# Altium schematic symbol library PVLoad_Schlib.SchLib: 13 symbols
Pins are listed as number, name and electrical type; pins without a type are passive.

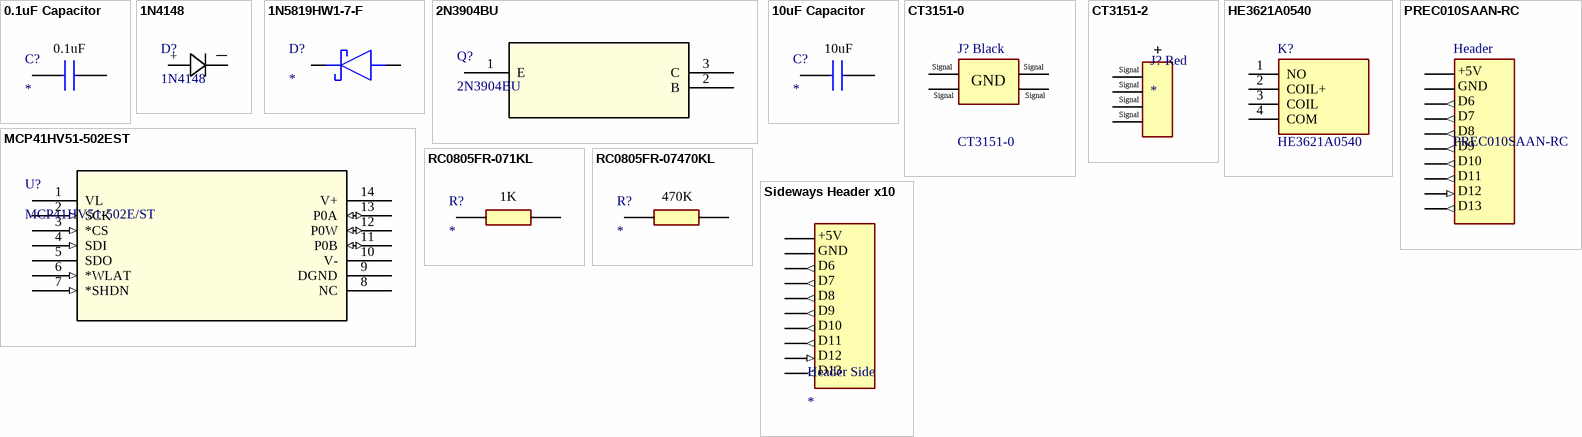
[diagram p0: symbols 0.1uF Capacitor to Sideways Header x10]

## 0.1uF Capacitor
designator C?
Capacitor; Manufacturer_Name: SAMSUNG; Manufacturer_Part_Number: CL21B104KBCNNNC; Datasheet Link: https://datasheet.datasheetarchive.com/originals/distributors/Datasheets_SAMA/86a3eaf0882763ef32124d5901f9b833.pdf; Height: 0.95mm; Mouser Part Number: 187-CL21B104KBCNNNC; Mouser Price/Stock: https://www.mouser.co.uk/ProductDetail/Samsung-Electro-Mechanics/CL21B104KBCNNNC?qs=349EhDEZ59pEfpnm5yBEmQ%3D%3D; Arrow Part Number: CL21B104KBCNNNC; Arrow Price/Stock: https://www.arrow.com/en/products/cl21b104kbcnnnc/samsung-electro-mechanics?utm_currency=USD&region=nac
footprint CAPC2012X95N 0.1uF
pins: 1, 2
text: 0.1uF

## 1N4148
designator D?
No Description Available; Manufacturer_Name: onsemi; Copyright: Copyright (C) 2026 Ultra Librarian. All rights reserved.; Manufacturer_Part_Number: 1N4148
footprint AXIAL_017AG_T26_ONS
pins: 1, 2
text: +; —

## 1N5819HW1-7-F
designator D?
Schottky Diode; Manufacturer_Name: Diodes Incorporated; Manufacturer_Part_Number: 1N5819HW1-7-F; Description: 1N5819 Schottky Diode 40V 1A SOD123F; Datasheet Link: https://www.diodes.com//assets/Datasheets/1N5819HW1.pdf; Height: 1.15mm; Mouser Part Number: 621-1N5819HW1-7-F; Mouser Price/Stock: https://www.mouser.co.uk/ProductDetail/Diodes-Incorporated/1N5819HW1-7-F?qs=60RJRzIpcl9ACQG7Zn63jQ%3D%3D; Arrow Part Number: 1N5819HW1-7-F; Arrow Price/Stock: https://www.arrow.com/en/products/1n5819hw1-7-f/diodes-incorporated?utm_currency=USD&region=nac
footprint SODFL3518X115N
pins: 1 K, 2 A

## 2N3904BU
designator Q?
No Description Available; Manufacturer_Name: onsemi / Fairchild Semiconductor; Copyright: Copyright (C) 2026 Ultra Librarian. All rights reserved.; Manufacturer_Part_Number: 2N3904BU; RefDes: RefDes; Type: Type
footprint TO-92_FAS
pins: 1 E, 2 B, 3 C

## 10uF Capacitor
designator C?
Capacitor; Manufacturer_Name: SAMSUNG; Manufacturer_Part_Number: CL32B106KBJNNNE; Datasheet Link: https://datasheet.datasheetarchive.com/originals/distributors/Datasheets-DGA10/2406903.pdf; Height: 2.7mm; Mouser Part Number: 187-CL32B106KBJNNNE; Mouser Price/Stock: https://www.mouser.co.uk/ProductDetail/Samsung-Electro-Mechanics/CL32B106KBJNNNE?qs=349EhDEZ59rXK%2FOM74I5cg%3D%3D; Arrow Part Number: CL32B106KBJNNNE; Arrow Price/Stock: https://www.arrow.com/en/products/cl32b106kbjnnne/samsung-electro-mechanics.html?utm_currency=USD&region=nac
footprint CAPC3225X270N 10uF
pins: 1, 2
text: 10uF

## CT3151-0
designator J? Black
4mm Safety Jack Horizontal PCB Mount; Manufacturer_Name: Cal Test; Geometry.Height: 13.5mm; Manufacturer_Part_Number: CT3151-0; Mouser Part Number: 510-CT3151-0; Mouser Price/Stock: https://www.mouser.co.uk/ProductDetail/Cal-Test/CT3151-0?qs=vgjKjNJexTi7zzqDU3Xrcg%3D%3D; Arrow Part Number: *; Arrow Price/Stock: *; Datasheet Link: https://componentsearchengine.com/Datasheets/1/CT3151-0.pdf
footprint CT31510
pins: 1, 2, 3, 4
text: Signal; GND

## CT3151-2
designator J? Red
Banana Jack Connector Standard Banana Solder Red; MF: Cal Test; MP: CT3151-2; SnapEDA_Link: https://www.snapeda.com/parts/CT3151-2/Cal+Test+Electronics/view-part/?ref=snap; Package: None; Value: *; Check_prices: https://www.snapeda.com/parts/CT3151-2/Cal+Test+Electronics/view-part/?ref=eda
footprint CALTEST_CT3151-2
pins: 1, 2 1, 3 1, 4 1
text: +; Signal

## HE3621A0540
designator K?
Reed Relay 5VDC 500Ohm 0.5A SPST-NO(20.2x6.05x7.87)mm THT Dry; Manufacturer_Name: LITTELFUSE; Geometry.Height: 7.87mm; Manufacturer_Part_Number: HE3621A0540; Mouser Part Number: 934-HE3621A0540; Mouser Price/Stock: https://www.mouser.co.uk/ProductDetail/Littelfuse/HE3621A0540?qs=X8LBAgEWIKIUBLwFF6DU2A%3D%3D; Arrow Part Number: HE3621A0540; Arrow Price/Stock: https://www.arrow.com/en/products/he3621a0540/littelfuse?utm_currency=USD&region=nac; Datasheet Link: https://m.littelfuse.com/~/media/electronics/datasheets/reed_relays/littelfuse_reed_relays_he3600_datasheet.pdf.pdf
footprint HE3621A0540
pins: 1 NO, 2 COIL+, 3 COIL, 4 COM

## MCP41HV51-502EST
designator U?, comment MCP41HV51-502E/ST
No Description Available; Manufacturer_Name: Microchip; Copyright: Copyright (C) 2026 Ultra Librarian. All rights reserved.; Manufacturer_Part_Number: MCP41HV51-502E/ST; RefDes: RefDes; Type: Type
footprint TSSOP14_MC_MCH-M
pins: 1 VL (power), 2 SCK (in), 3 *CS (in), 4 SDI (in), 5 SDO (hiz), 6 *WLAT (in), 7 *SHDN (in), 8 NC, 9 DGND (power), 10 V- (power), 11 P0B (io), 12 P0W (io), 13 P0A (io), 14 V+ (power)

## PREC010SAAN-RC
designator Header
HEADER MALE .100" PITCH, STRAIGHT; Manufacturer_Name: Sullins; Geometry.Height: 8.34mm; Manufacturer_Part_Number: PREC010SAAN-RC; Mouser Part Number: *; Mouser Price/Stock: *; Arrow Part Number: *; Arrow Price/Stock: *; Datasheet Link: http://media.digikey.com/PDF/Data%20Sheets/Sullins%20PDFs/z%20RzCzzzSzzN-RC,%20ST,11635-B.pdf
footprint PREC010SAAN-RC
pins: 1 (power), 2 (power), 3 (out), 4 (out), 5 (out), 6 (out), 7 (out), 8 (out), 9 (in), 10 (out)
text: +5V; GND; D6; D7; D8; D9; D10; D11; D12; D13

## RC0805FR-071KL
designator R?
Resistor; Manufacturer_Name: TDK; Manufacturer_Part_Number: RC0805FR-071KL; Datasheet Link: https://www.yageo.com/upload/media/product/productsearch/datasheet/rchip/PYu-RC_Group_51_RoHS_L_11.pdf; Height: 0.6mm
footprint RESC2012X60N 1K
pins: 1, 2
text: 1K

## RC0805FR-07470KL
designator R?
Resistor; Manufacturer_Name: Yageo Group; Manufacturer_Part_Number: RC0805FR-07470KL; Datasheet Link: http://www.yageo.com/documents/recent/PYu-RC_Group_51_RoHS_L_10.pdf; Height: 0.6mm; Mouser Part Number: 603-RC0805FR-07470KL; Mouser Price/Stock: https://www.mouser.com/Search/ProductDetail.aspx?qs=SufOd%252bAGZfh3Zo2uEHI0rQ%3d%3d; Arrow Part Number: RC0805FR-07470KL; Arrow Price/Stock: https://www.arrow.com/en/products/rc0805fr-07470kl/yageo.html?utm_currency=USD&region=nac
footprint RESC2012X60N 470K
pins: 1, 2
text: 470K

## Sideways Header x10
designator Header Side
footprint Sideways Header x10
pins: 1 (power), 2 (power), 3 (out), 4 (out), 5 (out), 6 (out), 7 (out), 8 (out), 9 (in), 10 (out)
text: +5V; GND; D6; D7; D8; D9; D10; D11; D12; D13